# Altium schematic symbol library CRG0805F100K.SchLib: 1 symbol
Pins are listed as number, name and electrical type; pins without a type are passive.

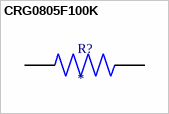
[diagram p0: symbol CRG0805F100K]

## CRG0805F100K
designator R?
CRG0805 1% 100K; MP: CRG0805F100K; MF: {'manufacturer': u'TE Connectivity'}; Price: None; Package: None; Availability: Unavailable; Value: *
footprint RESC2012X65N
pins: 1, 2